# EAGLE library part ILQ615-4 (library DSX_Library)
Check prices <https://pricing.snapeda.com/parts/ILQ615-4/Vishay%20Semiconductor/view-part?ref=eda>
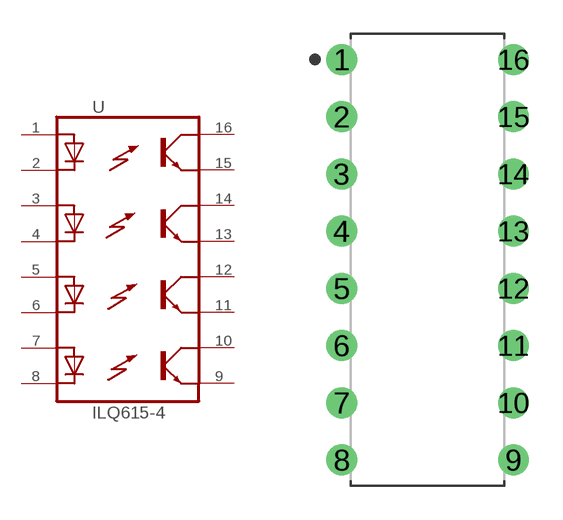
[diagram p10: symbol with the pads of DIP762W53P254L1992H508Q16B; footprint DIP762W53P254L1992H508Q16B]

Designator prefix U

## ILQ615-4ILQ615  [DIP762W53P254L1992H508Q16B]
1  A1  pas
2  C1  pas
3  A2  pas
4  C2  pas
5  A3  pas
6  C3  pas
7  A4  pas
8  C4  pas
9  E4  pas
10  CO4  pas
11  E3  pas
12  CO3  pas
13  E2  pas
14  CO2  pas
15  E1  pas
16  CO1  pas

## Footprint DIP762W53P254L1992H508Q16B (pad centres in mm)
16-DIP, 2.54 mm (0.10 in) pitch, 7.62 mm (0.30 in) span, 19.92 X 6.64 X 5.08 mm body 16-pin DIP package with 2.54 mm (0.10 in) pitch, 7.62 mm (0.30 in) span with body size 19.92 X 6.64 X 5.08 mm
drill 0.766 pad 1.367: 1 -3.81,8.89; 2 -3.81,6.35; 3 -3.81,3.81; 4 -3.81,1.27; 5 -3.81,-1.27; 6 -3.81,-3.81; 7 -3.81,-6.35; 8 -3.81,-8.89; 9 3.81,-8.89; 10 3.81,-6.35; 11 3.81,-3.81; 12 3.81,-1.27; 13 3.81,1.27; 14 3.81,3.81; 15 3.81,6.35; 16 3.81,8.89